# Altium schematic symbol library USB_C_Dual.Schlib: 1 symbol
Pins are listed as number, name and electrical type; pins without a type are passive.

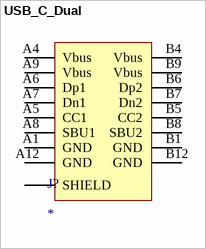
[diagram p0: symbol USB_C_Dual]

## USB_C_Dual
designator J?
pins: A1 GND, A4 Vbus, A5 CC1, A6 Dp1, A7 Dn1, A8 SBU1, A9 Vbus, A12 GND, B1 GND, B4 Vbus, B5 CC2, B6 Dp2, B7 Dn2, B8 SBU2, B9 Vbus, B12 GND, S SHIELD